# Altium footprint library SIM800C.PcbLib: 1 footprints
Each footprint in its own frame and in the unit in brackets; x right, y up, seen from the top. Pads: shape width x height; smd on the part's side, far side on the other; paste and mask are expansions set on the pad; w line width, h text height; cw(c..) or ccw(c..) is an arc to the next point about the centre after c.
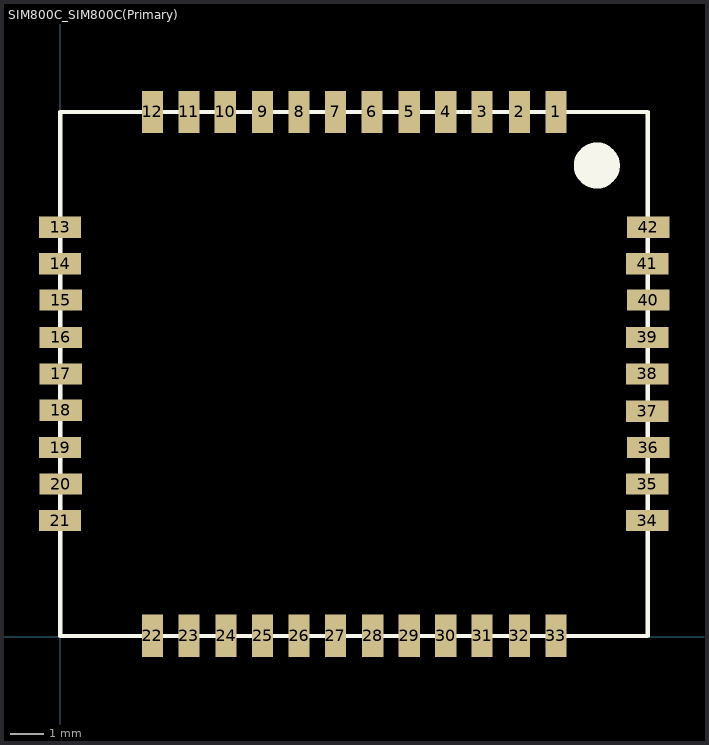
[diagram p0: the footprint, top view; thin cyan lines are the x and y axes]

## SIM800C_SIM800C(Primary) [mil]
pads (42):
  rect 25x50 smd: 1(585,619) 2(542,619) 3(498,619) 4(455,619) 5(412,619) 6(368,619) 7(325,619) 8(282,619) 9(239,619) 10(195,619) 11(152,619) 12(109,619) 22(109,1) 23(152,1) 24(196,1) 25(239,1) 26(282,1) 27(325,1) 28(369,1) 29(412,1) 30(455,1) 31(498,1) 32(542,1) 33(585,1)
  rect 50x25 smd: 13(0,483) 14(0,440) 15(1,397) 16(1,353) 17(1,310) 18(1,267) 19(0,223) 20(1,180) 21(0,137) 34(693,137) 35(693,180) 36(694,223) 37(693,266) 38(693,310) 39(693,353) 40(694,397) 41(693,440) 42(694,483)
Top Overlay:
  circle w32: c633.31,555.79 r11.18
  lines w5: 0.39,0.79 693.31,0.79 693.31,618.9 0.39,618.9 0.39,0.79
Top Paste:
  drawing of 42 lines, arcs and shapes, not listed
Top Solder:
  drawing of 42 lines, arcs and shapes, not listed
3D body "SIM800C-3d.STEP": height 91.85, standoff -0.27, extent 2.54,0.89 695.46,619